# Altium schematic symbol library TEST POINT.SchLib: 1 symbol
Pins are listed as number, name and electrical type; pins without a type are passive.

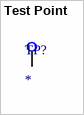
[diagram p0: symbol Test Point]

## Test Point
designator TP?
pins: 1 TP